# EAGLE library part 74V*14 (library template)
Hex inverter
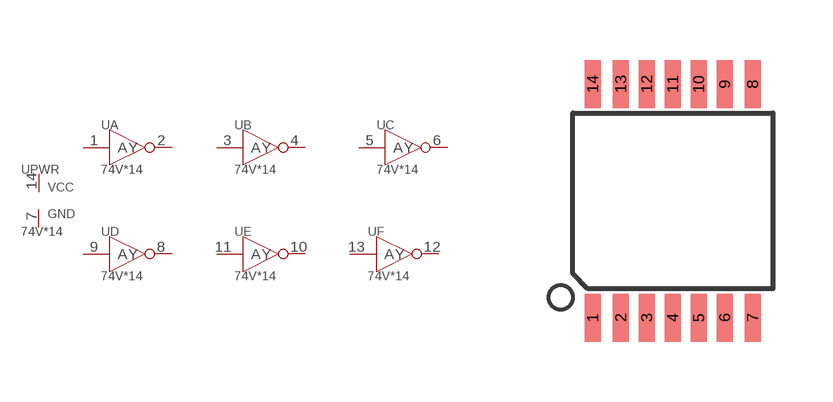
[diagram p1: symbol with the pads of TSSOP14; footprint TSSOP14]

Designator prefix U; gates PWR=PWR A=74VHC14 B=74VHC14 C=74VHC14 D=74VHC14 E=74VHC14 F=74VHC14

## 74VHC14PW, 74VHCT14PW  [TSSOP14]
1  A:A
2  A:Y
3  B:A
4  B:Y
5  C:A
6  C:Y
7  PWR:GND
8  D:Y
9  D:A
10  E:Y
11  E:A
12  F:Y
13  F:A
14  PWR:VCC

## Footprint TSSOP14 (pad centres in mm)
smd 0.4 x 1.2: 1 -2,-2.925; 2 -1.3,-2.925; 3 -0.65,-2.925; 4 0,-2.925; 5 0.65,-2.925; 6 1.3,-2.925; 7 2,-2.925; 8 2,2.925; 9 1.3,2.925; 10 0.65,2.925; 11 0,2.925; 12 -0.65,2.925; 13 -1.3,2.925; 14 -2,2.925